# EAGLE library part MAX4995AAUT+ (library LAN-Edison)
Programmable current-limit switch
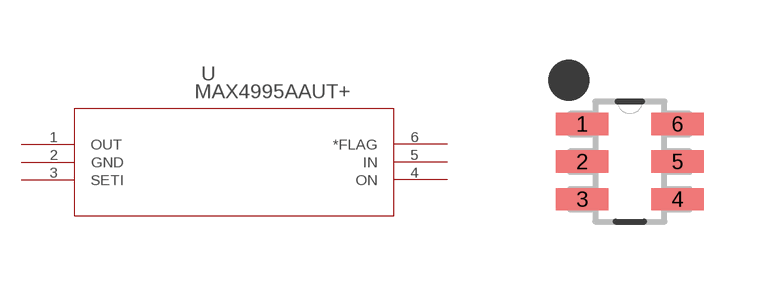
[diagram p9: symbol with the pads of 21-0058I; footprint 21-0058I]

Designator prefix U

## MAX4995AAUT+ (MANUFACTURER_PART_NUMBER: max4995aaut+; VENDOR: MAXIM)  [21-0058I]
1  OUT  out
2  GND  pwr
3  SETI  pas
4  ON  in
5  IN  in
6  *FLAG  out

## Footprint 21-0058I (pad centres in mm)
smd 1.321 x 0.559: 1 -1.194,0.94; 2 -1.194,0; 3 -1.194,-0.94; 4 1.194,-0.94; 5 1.194,0; 6 1.194,0.94